# Altium schematic symbol library 4.5 - 电子管.SchLib: 14 symbols
Pins are listed as number, name and electrical type; pins without a type are passive.

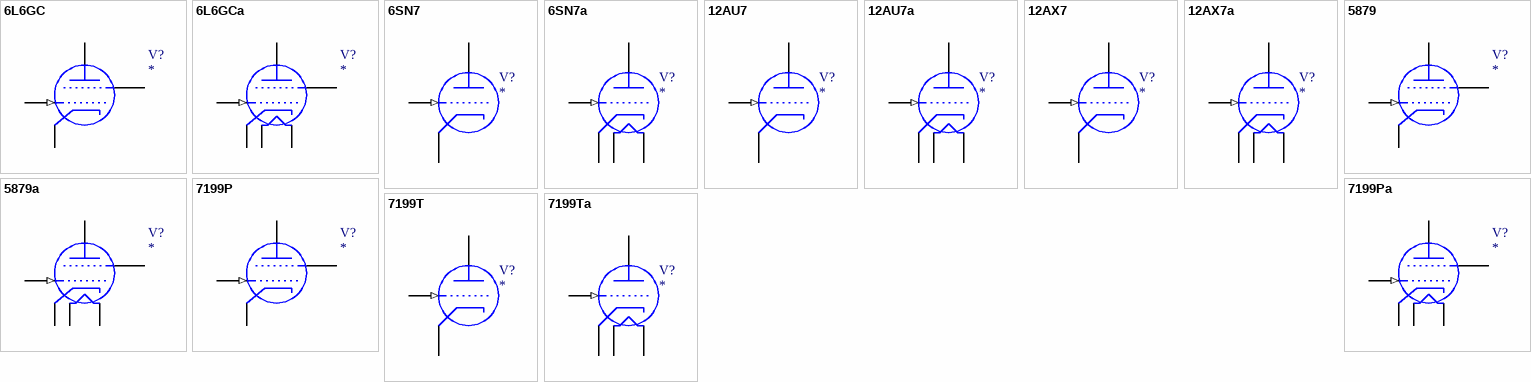
[diagram p0: symbols 6L6GC to 7199Ta]

## 6L6GC
designator V?
Tetrode; 1.库作者: 冰凌猫; 2.库版本: v2.0 (2021.03.30); 3.交流分享: Q群514746572,开源更新,欢迎一起交流学习PCB设计; 4.作者声明: 旨为整合最全库集,欢迎转载,禁止商用！-冰凌猫; 5.备注说明: 该库已二次整合过网上各热销库,基本最全,无需重复搜购安装
simulation model 6L6GC (SUNBCKT)
pins: 1 P, 2 SCRG, 3 CTLG (in), 4 K

## 6L6GCa
designator V?
Tetrode; 1.库作者: 冰凌猫; 2.库版本: v2.0 (2021.03.30); 3.交流分享: Q群514746572,开源更新,欢迎一起交流学习PCB设计; 4.作者声明: 旨为整合最全库集,欢迎转载,禁止商用！-冰凌猫; 5.备注说明: 该库已二次整合过网上各热销库,基本最全,无需重复搜购安装
simulation model 6L6GCa (SUNBCKT)
pins: 1 P, 2 SCRG, 3 CTLG (in), 4 K, 5 Hi, 6 H2

## 6SN7
designator V?
Triode; 1.库作者: 冰凌猫; 2.库版本: v2.0 (2021.03.30); 3.交流分享: Q群514746572,开源更新,欢迎一起交流学习PCB设计; 4.作者声明: 旨为整合最全库集,欢迎转载,禁止商用！-冰凌猫; 5.备注说明: 该库已二次整合过网上各热销库,基本最全,无需重复搜购安装
simulation model 6SN7 (SUNBCKT)
pins: 1 P, 2 G (in), 3 K

## 6SN7a
designator V?
Triode; 1.库作者: 冰凌猫; 2.库版本: v2.0 (2021.03.30); 3.交流分享: Q群514746572,开源更新,欢迎一起交流学习PCB设计; 4.作者声明: 旨为整合最全库集,欢迎转载,禁止商用！-冰凌猫; 5.备注说明: 该库已二次整合过网上各热销库,基本最全,无需重复搜购安装
simulation model 6SN7a (SUNBCKT)
pins: 1 P, 2 G (in), 3 K, 4 H1, 5 H2

## 12AU7
designator V?
Triode; 1.库作者: 冰凌猫; 2.库版本: v2.0 (2021.03.30); 3.交流分享: Q群514746572,开源更新,欢迎一起交流学习PCB设计; 4.作者声明: 旨为整合最全库集,欢迎转载,禁止商用！-冰凌猫; 5.备注说明: 该库已二次整合过网上各热销库,基本最全,无需重复搜购安装
simulation model 12AU7 (SUNBCKT)
pins: 1 P, 2 G (in), 3 K

## 12AU7a
designator V?
Triode; 1.库作者: 冰凌猫; 2.库版本: v2.0 (2021.03.30); 3.交流分享: Q群514746572,开源更新,欢迎一起交流学习PCB设计; 4.作者声明: 旨为整合最全库集,欢迎转载,禁止商用！-冰凌猫; 5.备注说明: 该库已二次整合过网上各热销库,基本最全,无需重复搜购安装
simulation model 12AU7a (SUNBCKT)
pins: 1 P, 2 G (in), 3 K, 4 H1, 5 H2

## 12AX7
designator V?
Triode; 1.库作者: 冰凌猫; 2.库版本: v2.0 (2021.03.30); 3.交流分享: Q群514746572,开源更新,欢迎一起交流学习PCB设计; 4.作者声明: 旨为整合最全库集,欢迎转载,禁止商用！-冰凌猫; 5.备注说明: 该库已二次整合过网上各热销库,基本最全,无需重复搜购安装
simulation model 12AX7 (SUNBCKT)
pins: 1 P, 2 G (in), 3 K

## 12AX7a
designator V?
Triode; 1.库作者: 冰凌猫; 2.库版本: v2.0 (2021.03.30); 3.交流分享: Q群514746572,开源更新,欢迎一起交流学习PCB设计; 4.作者声明: 旨为整合最全库集,欢迎转载,禁止商用！-冰凌猫; 5.备注说明: 该库已二次整合过网上各热销库,基本最全,无需重复搜购安装
simulation model 12AX7a (SUNBCKT)
pins: 1 P, 2 G (in), 3 K, 4 H1, 5 H2

## 5879
designator V?
Tetrode; 1.库作者: 冰凌猫; 2.库版本: v2.0 (2021.03.30); 3.交流分享: Q群514746572,开源更新,欢迎一起交流学习PCB设计; 4.作者声明: 旨为整合最全库集,欢迎转载,禁止商用！-冰凌猫; 5.备注说明: 该库已二次整合过网上各热销库,基本最全,无需重复搜购安装
simulation model 5879 (SUNBCKT)
pins: 1 P, 2 SCRG, 3 CTLG (in), 4 K

## 5879a
designator V?
Tetrode; 1.库作者: 冰凌猫; 2.库版本: v2.0 (2021.03.30); 3.交流分享: Q群514746572,开源更新,欢迎一起交流学习PCB设计; 4.作者声明: 旨为整合最全库集,欢迎转载,禁止商用！-冰凌猫; 5.备注说明: 该库已二次整合过网上各热销库,基本最全,无需重复搜购安装
simulation model 5879a (SUNBCKT)
pins: 1 P, 2 SCRG, 3 CTLG (in), 4 K, 5 Hi, 6 H2

## 7199P
designator V?
Tetrode; 1.库作者: 冰凌猫; 2.库版本: v2.0 (2021.03.30); 3.交流分享: Q群514746572,开源更新,欢迎一起交流学习PCB设计; 4.作者声明: 旨为整合最全库集,欢迎转载,禁止商用！-冰凌猫; 5.备注说明: 该库已二次整合过网上各热销库,基本最全,无需重复搜购安装
simulation model 7199P (SUNBCKT)
pins: 1 P, 2 SCRG, 3 CTLG (in), 4 K

## 7199Pa
designator V?
Tetrode; 1.库作者: 冰凌猫; 2.库版本: v2.0 (2021.03.30); 3.交流分享: Q群514746572,开源更新,欢迎一起交流学习PCB设计; 4.作者声明: 旨为整合最全库集,欢迎转载,禁止商用！-冰凌猫; 5.备注说明: 该库已二次整合过网上各热销库,基本最全,无需重复搜购安装
simulation model 7199Pa (SUNBCKT)
pins: 1 P, 2 SCRG, 3 CTLG (in), 4 K, 5 Hi, 6 H2

## 7199T
designator V?
Triode; 1.库作者: 冰凌猫; 2.库版本: v2.0 (2021.03.30); 3.交流分享: Q群514746572,开源更新,欢迎一起交流学习PCB设计; 4.作者声明: 旨为整合最全库集,欢迎转载,禁止商用！-冰凌猫; 5.备注说明: 该库已二次整合过网上各热销库,基本最全,无需重复搜购安装
simulation model 7199T (SUNBCKT)
pins: 1 P, 2 G (in), 3 K

## 7199Ta
designator V?
Triode; 1.库作者: 冰凌猫; 2.库版本: v2.0 (2021.03.30); 3.交流分享: Q群514746572,开源更新,欢迎一起交流学习PCB设计; 4.作者声明: 旨为整合最全库集,欢迎转载,禁止商用！-冰凌猫; 5.备注说明: 该库已二次整合过网上各热销库,基本最全,无需重复搜购安装
simulation model 7199Ta (SUNBCKT)
pins: 1 P, 2 G (in), 3 K, 4 H1, 5 H2